# EAGLE library part 5435640-5 (library Switches)
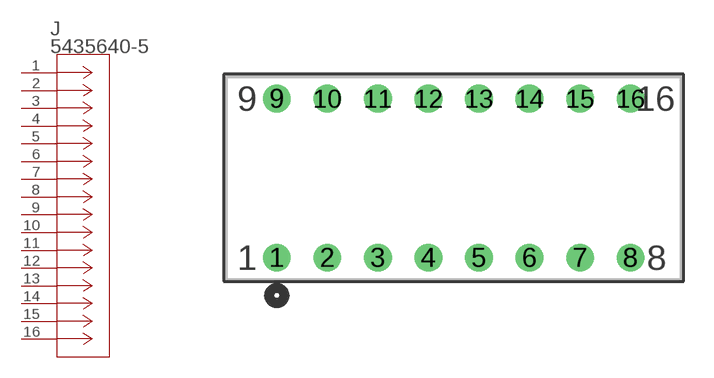
[diagram p39: symbol with the pads of CONN_5435640-5; footprint CONN_5435640-5]

Designator prefix J

## 5435640-5 (BUILT_BY: EMA_UL_Team; CATEGORY: DIP & SIP Switches; DESCRIPTION: DIP SW 8POSN AU; MANUFACTURER_PART_NUMBER: 5435640-5; PART_STATUS: active; SERIES: Alcoswitch 7100; VENDOR: TE Connectivity)  [CONN_5435640-5]
1  1  pas
2  2  pas
3  3  pas
4  4  pas
5  5  pas
6  6  pas
7  7  pas
8  8  pas
9  9  pas
10  10  pas
11  11  pas
12  12  pas
13  13  pas
14  14  pas
15  15  pas
16  16  pas

## Footprint CONN_5435640-5 (pad centres in mm)
drill 0.889 pad 1.397: 1 -17.78,-8.001; 2 -15.24,-8.001; 3 -12.7,-8.001; 4 -10.16,-8.001; 5 -7.62,-8.001; 6 -5.08,-8.001; 7 -2.54,-8.001; 8 0,-8.001; 9 -17.78,0; 10 -15.24,0; 11 -12.7,0; 12 -10.16,0; 13 -7.62,0; 14 -5.08,0; 15 -2.54,0; 16 0,0